# Altium schematic symbol library Altium Footprints.SchLib: 16 symbols
Pins are listed as number, name and electrical type; pins without a type are passive.

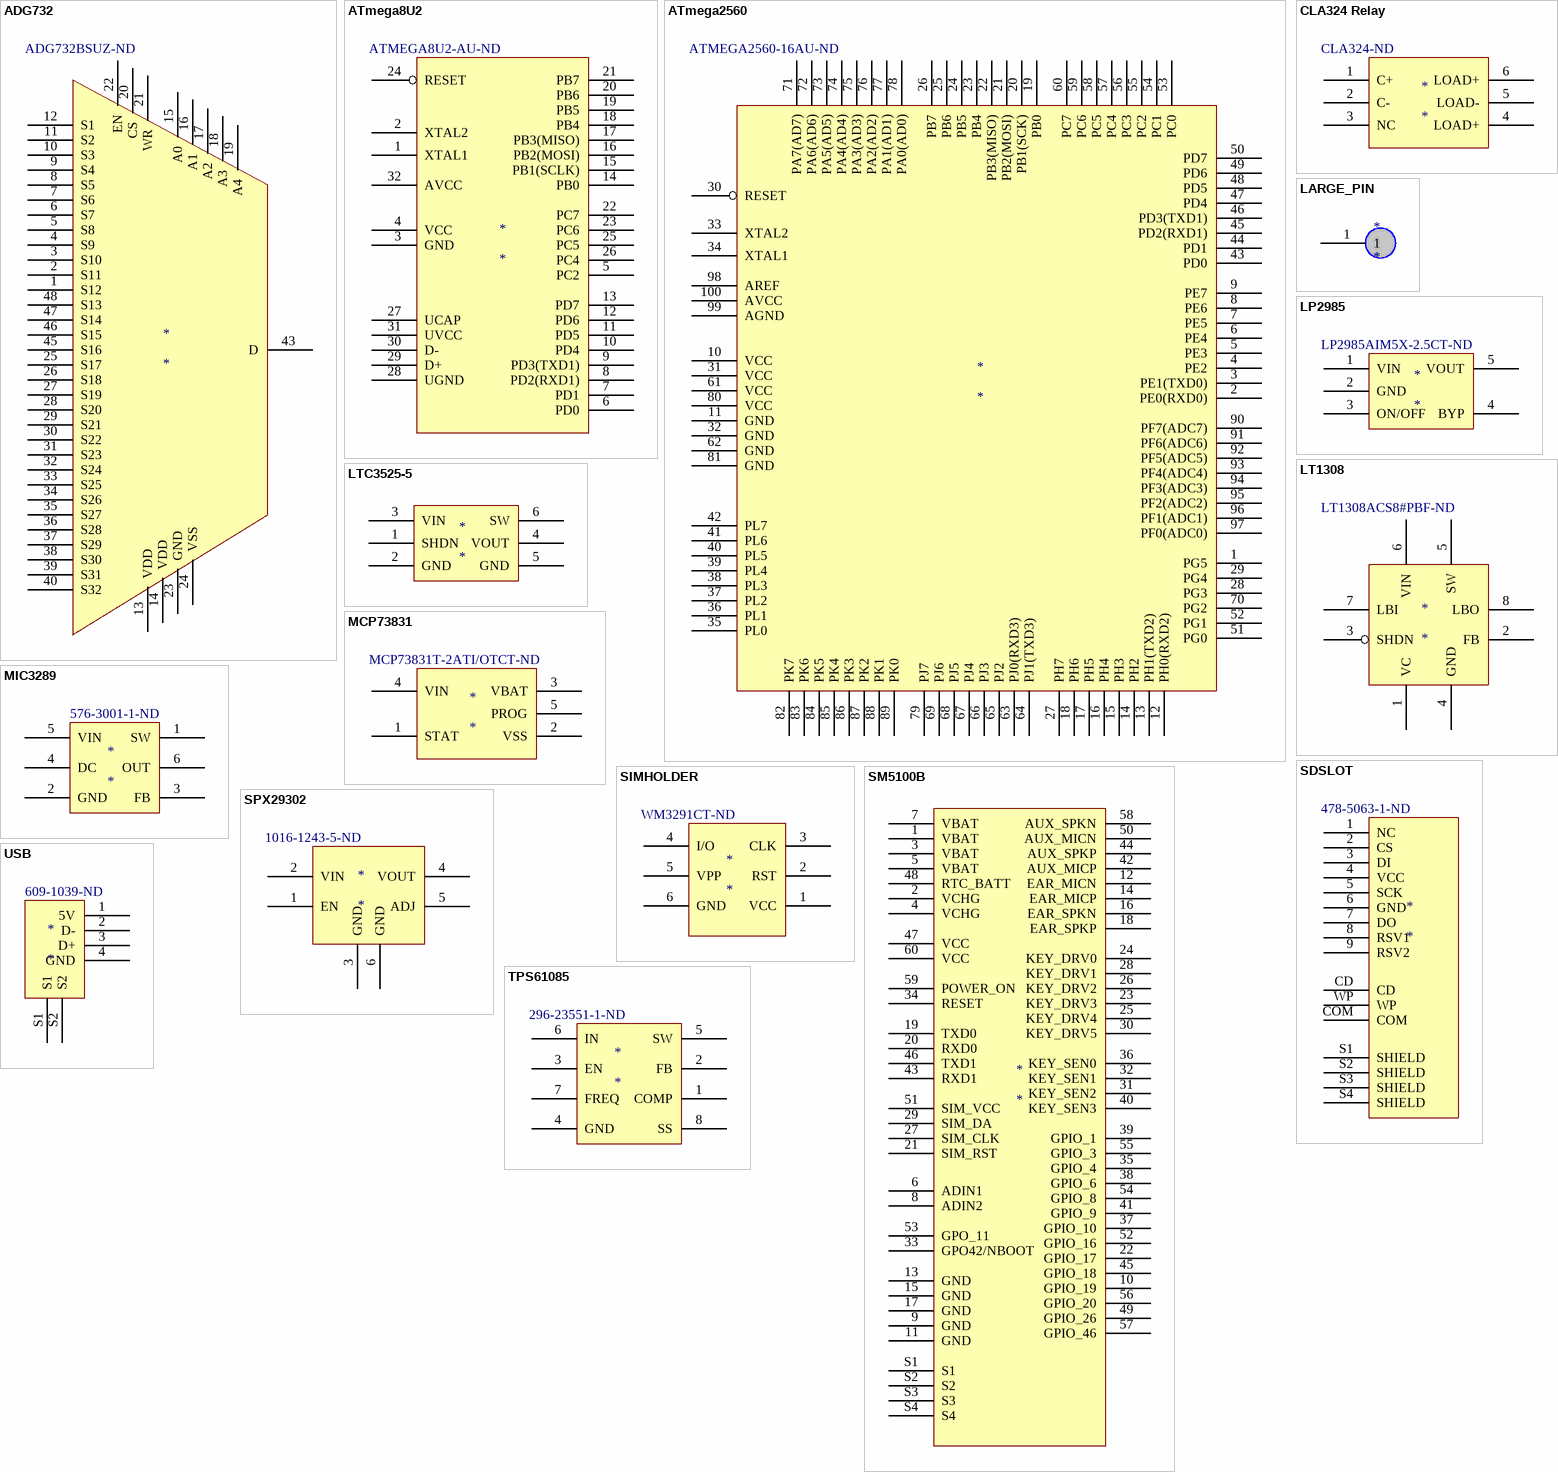
[diagram p0: symbols ADG732 to USB]

## ADG732
designator *  Supplier Part Number 1: ADG732BSUZ-ND
Supplier 1: Digi-Key
pins: 1 S12, 2 S11, 3 S10, 4 S9, 5 S8, 6 S7, 7 S6, 8 S5, 9 S4, 10 S3, 11 S2, 12 S1, 13 VDD, 14 VDD, 15 A0, 16 A1, 17 A2, 18 A3, 19 A4, 20 CS, 21 WR, 22 EN, 23 GND, 24 VSS, 25 S17, 26 S18, 27 S19, 28 S20, 29 S21, 30 S22, 31 S23, 32 S24, 33 S25, 34 S26, 35 S27, 36 S28, 37 S29, 38 S30, 39 S31, 40 S32, 43 D, 45 S16, 46 S15, 47 S14, 48 S13

## ATmega8U2
designator *  Supplier Part Number 1: ATMEGA8U2-AU-ND
Supplier 1: Digi-Key
footprint QFP80P900X900-32M (32-Pin Quad Flat Pack 0.8 mm Pitch)
pins: 1 XTAL1, 2 XTAL2, 3 GND, 4 VCC, 5 PC2, 6 PD0, 7 PD1, 8 PD2(RXD1), 9 PD3(TXD1), 10 PD4, 11 PD5, 12 PD6, 13 PD7, 14 PB0, 15 PB1(SCLK), 16 PB2(MOSI), 17 PB3(MISO), 18 PB4, 19 PB5, 20 PB6, 21 PB7, 22 PC7, 23 PC6, 24 RESET, 25 PC5, 26 PC4, 27 UCAP, 28 UGND, 29 D+, 30 D-, 31 UVCC, 32 AVCC

## ATmega2560
designator *  Supplier Part Number 1: ATMEGA2560-16AU-ND
Supplier 1: Digi-Key
footprint TQFP100
pins: 1 PG5, 2 PE0(RXD0), 3 PE1(TXD0), 4 PE2, 5 PE3, 6 PE4, 7 PE5, 8 PE6, 9 PE7, 10 VCC, 11 GND, 12 PH0(RXD2), 13 PH1(TXD2), 14 PH2, 15 PH3, 16 PH4, 17 PH5, 18 PH6, 19 PB0, 20 PB1(SCK), 21 PB2(MOSI), 22 PB3(MISO), 23 PB4, 24 PB5, 25 PB6, 26 PB7, 27 PH7, 28 PG3, 29 PG4, 30 RESET, 31 VCC, 32 GND, 33 XTAL2, 34 XTAL1, 35 PL0, 36 PL1, 37 PL2, 38 PL3, 39 PL4, 40 PL5, 41 PL6, 42 PL7, 43 PD0, 44 PD1, 45 PD2(RXD1), 46 PD3(TXD1), 47 PD4, 48 PD5, 49 PD6, 50 PD7, 51 PG0, 52 PG1, 53 PC0, 54 PC1, 55 PC2, 56 PC3, 57 PC4, 58 PC5, 59 PC6, 60 PC7, 61 VCC, 62 GND, 63 PJ0(RXD3), 64 PJ1(TXD3), 65 PJ2, 66 PJ3, 67 PJ4, 68 PJ5, 69 PJ6, 70 PG2, 71 PA7(AD7), 72 PA6(AD6), 73 PA5(AD5), 74 PA4(AD4), 75 PA3(AD3), 76 PA2(AD2), 77 PA1(AD1), 78 PA0(AD0), 79 PJ7, 80 VCC, 81 GND, 82 PK7, 83 PK6, 84 PK5, 85 PK4, 86 PK3, 87 PK2, 88 PK1, 89 PK0, 90 PF7(ADC7), 91 PF6(ADC6), 92 PF5(ADC5), 93 PF4(ADC4), 94 PF3(ADC3), 95 PF2(ADC2), 96 PF1(ADC1), 97 PF0(ADC0), 98 AREF, 99 AGND, 100 AVCC

## CLA324 Relay
designator *  Supplier Part Number 1: CLA324-ND
Supplier 1: Digi-Key
footprint 6-SMD
pins: 1 C+, 2 C-, 3 NC, 4 LOAD+, 5 LOAD-, 6 LOAD+

## LARGE_PIN
designator *
footprint 2.5mm PIN
pins: 1

## LP2985
designator *  Supplier Part Number 1: LP2985AIM5X-2.5CT-ND
Supplier 1: Digi-Key
footprint SOT23-5AM (SOT23, 5-Leads, Body 2.9x1.7mm, Pitch 0.95mm, Lead Span 2.8mm, IPC Low Density)
pins: 1 VIN, 2 GND, 3 ON/OFF, 4 BYP, 5 VOUT

## LT1308
designator *  Supplier Part Number 1: LT1308ACS8#PBF-ND
Supplier 1: Digi-Key
footprint SOIC127P600-8AM (SOIC, 8-Leads, Body 4.9x3.9mm, Pitch 1.27mm, IPC Low Density)
pins: 1 VC, 2 FB, 3 SHDN, 4 GND, 5 SW, 6 VIN, 7 LBI, 8 LBO

## LTC3525-5
designator *
pins: 1 SHDN, 2 GND, 3 VIN, 4 VOUT, 5 GND, 6 SW

## MCP73831
designator *  Supplier Part Number 1: MCP73831T-2ATI/OTCT-ND
Supplier 1: Digi-Key
footprint SOT23-5AM (SOT23, 5-Leads, Body 2.9x1.7mm, Pitch 0.95mm, Lead Span 2.8mm, IPC Low Density)
pins: 1 STAT, 2 VSS, 3 VBAT, 4 VIN, 5 PROG

## MIC3289
designator *  Supplier Part Number 1: 576-3001-1-ND
Supplier 1: Digi-Key
pins: 1 SW, 2 GND, 3 FB, 4 DC, 5 VIN, 6 OUT

## SDSLOT
designator *  Supplier Part Number 1: 478-5063-1-ND
Supplier 1: Digi-Key
footprint SDSLOT
pins: 1 NC, 2 CS, 3 DI, 4 VCC, 5 SCK, 6 GND, 7 DO, 8 RSV1, 9 RSV2, CD, COM, S1 SHIELD, S2 SHIELD, S3 SHIELD, S4 SHIELD, WP

## SIMHOLDER
designator *  Supplier Part Number 1: WM3291CT-ND
Supplier 1: Digi-Key
footprint SIMSLOT (6-pin molex 1.9mm sim reader 0473880001)
pins: 1 VCC, 2 RST, 3 CLK, 4 I/O, 5 VPP, 6 GND

## SM5100B
designator *
footprint SM5100B-60PIN
pins: 1 VBAT, 2 VCHG, 3 VBAT, 4 VCHG, 5 VBAT, 6 ADIN1, 7 VBAT, 8 ADIN2, 9 GND, 10 GPIO_19, 11 GND, 12 EAR_MICN, 13 GND, 14 EAR_MICP, 15 GND, 16 EAR_SPKN, 17 GND, 18 EAR_SPKP, 19 TXD0, 20 RXD0, 21 SIM_RST, 22 GPIO_17, 23 KEY_DRV3, 24 KEY_DRV0, 25 KEY_DRV4, 26 KEY_DRV2, 27 SIM_CLK, 28 KEY_DRV1, 29 SIM_DA, 30 KEY_DRV5, 31 KEY_SEN2, 32 KEY_SEN1, 33 GPO42/NBOOT, 34 RESET, 35 GPIO_4, 36 KEY_SEN0, 37 GPIO_10, 38 GPIO_6, 39 GPIO_1, 40 KEY_SEN3, 41 GPIO_9, 42 AUX_MICP, 43 RXD1, 44 AUX_SPKP, 45 GPIO_18, 46 TXD1, 47 VCC, 48 RTC_BATT, 49 GPIO_26, 50 AUX_MICN, 51 SIM_VCC, 52 GPIO_16, 53 GPO_11, 54 GPIO_8, 55 GPIO_3, 56 GPIO_20, 57 GPIO_46, 58 AUX_SPKN, 59 POWER_ON, 60 VCC, S1, S2, S3, S4

## SPX29302
designator *  Supplier Part Number 1: 1016-1243-5-ND
Supplier 1: Digi-Key
footprint TO170P1520-6N (D2-PAK, 6-Leads, Body 9x10.2mm, Pitch 1.7mm, Lead Span 15.2mm, IPC Medium Density)
pins: 1 EN, 2 VIN, 3 GND, 4 VOUT, 5 ADJ, 6 GND

## TPS61085
designator *  Supplier Part Number 1: 296-23551-1-ND
Supplier 1: Digi-Key
pins: 1 COMP, 2 FB, 3 EN, 4 GND, 5 SW, 6 IN, 7 FREQ, 8 SS

## USB
designator *  Supplier Part Number 1: 609-1039-ND
Supplier 1: Digi-Key
footprint USB-B PN61729
pins: 1 5V, 2 D-, 3 D+, 4 GND, S1, S2